# EAGLE library part HEADER_2X5 (library xnemo)
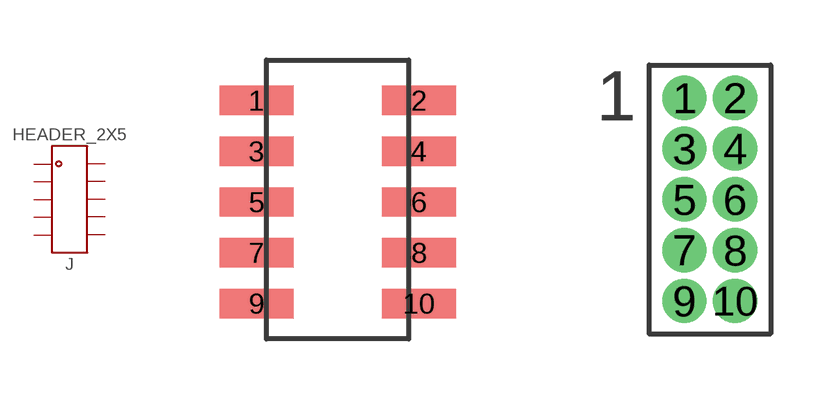
[diagram p8: symbol with the pads of HEADER_2X5_0.05_SMD; footprints HEADER_2X5_0.05_SMD, HEADER_2X5_0.05_THRU]

Designator prefix J

## HEADER_2X5_0.05_SMD  [HEADER_2X5_0.05_SMD]
1  1
2  2
3  3
4  4
5  5
6  6
7  7
8  8
9  9
10  10

## HEADER_2X5_0.05_THRU  [HEADER_2X5_0.05_THRU]
Pads as for HEADER_2X5_0.05_SMD

## HEADER_2X5_0.05X0.1_THRU  [HEADER_2X5_0.05X0.1_THRU]
Pads as for HEADER_2X5_0.05_SMD

## Footprint HEADER_2X5_0.05_SMD (pad centres in mm)
smd 1.854 x 0.737: 1 -2.032,2.54; 2 2.032,2.54; 3 -2.032,1.27; 4 2.032,1.27; 5 -2.032,0; 6 2.032,0; 7 -2.032,-1.27; 8 2.032,-1.27; 9 -2.032,-2.54; 10 2.032,-2.54

## Footprint HEADER_2X5_0.05_THRU (pad centres in mm)
drill 0.6 pad 1.016: 1 -0.635,2.54; 2 0.635,2.54; 3 -0.635,1.27; 4 0.635,1.27; 5 -0.635,0; 6 0.635,0; 7 -0.635,-1.27; 8 0.635,-1.27; 9 -0.635,-2.54; 10 0.635,-2.54

## Footprint HEADER_2X5_0.05X0.1_THRU (pad centres in mm)
drill 0.6 pad 1.016: 1 -1.27,2.54; 2 1.27,2.54; 3 -1.27,1.27; 4 1.27,1.27; 5 -1.27,0; 6 1.27,0; 7 -1.27,-1.27; 8 1.27,-1.27; 9 -1.27,-2.54; 10 1.27,-2.54